# Altium schematic symbol library IDC Header 20 Pin.Schlib: 1 symbol
Pins are listed as number, name and electrical type; pins without a type are passive.

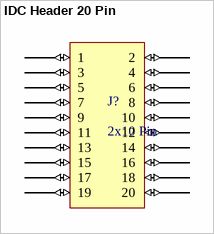
[diagram p0: symbol IDC Header 20 Pin]

## IDC Header 20 Pin
designator J?, comment 2x10 Pin
Header 20 0.100"(2.54mm) 2 2.54mm 20P IDC Connectors RoHS; LCSC Part #: C132442; ComponentLink1Description: LCSC - Ckmtw(Shenzhen Cankemeng) C132442; ComponentLink1URL: https://lcsc.com/product-detail/IDC-Connectors_Ckmtw-Shenzhen-Cankemeng-C132442_C132442.html
footprint 20-pin IDC Header
pins: 1 (io), 2 (io), 3 (io), 4 (io), 5 (io), 6 (io), 7 (io), 8 (io), 9 (io), 10 (io), 11 (io), 12 (io), 13 (io), 14 (io), 15 (io), 16 (io), 17 (io), 18 (io), 19 (io), 20 (io)